# Altium schematic symbol library SCT8-Board.SCHLIB: 149 symbols (part 1 of 4)
Pins are listed as number, name and electrical type; pins without a type are passive.

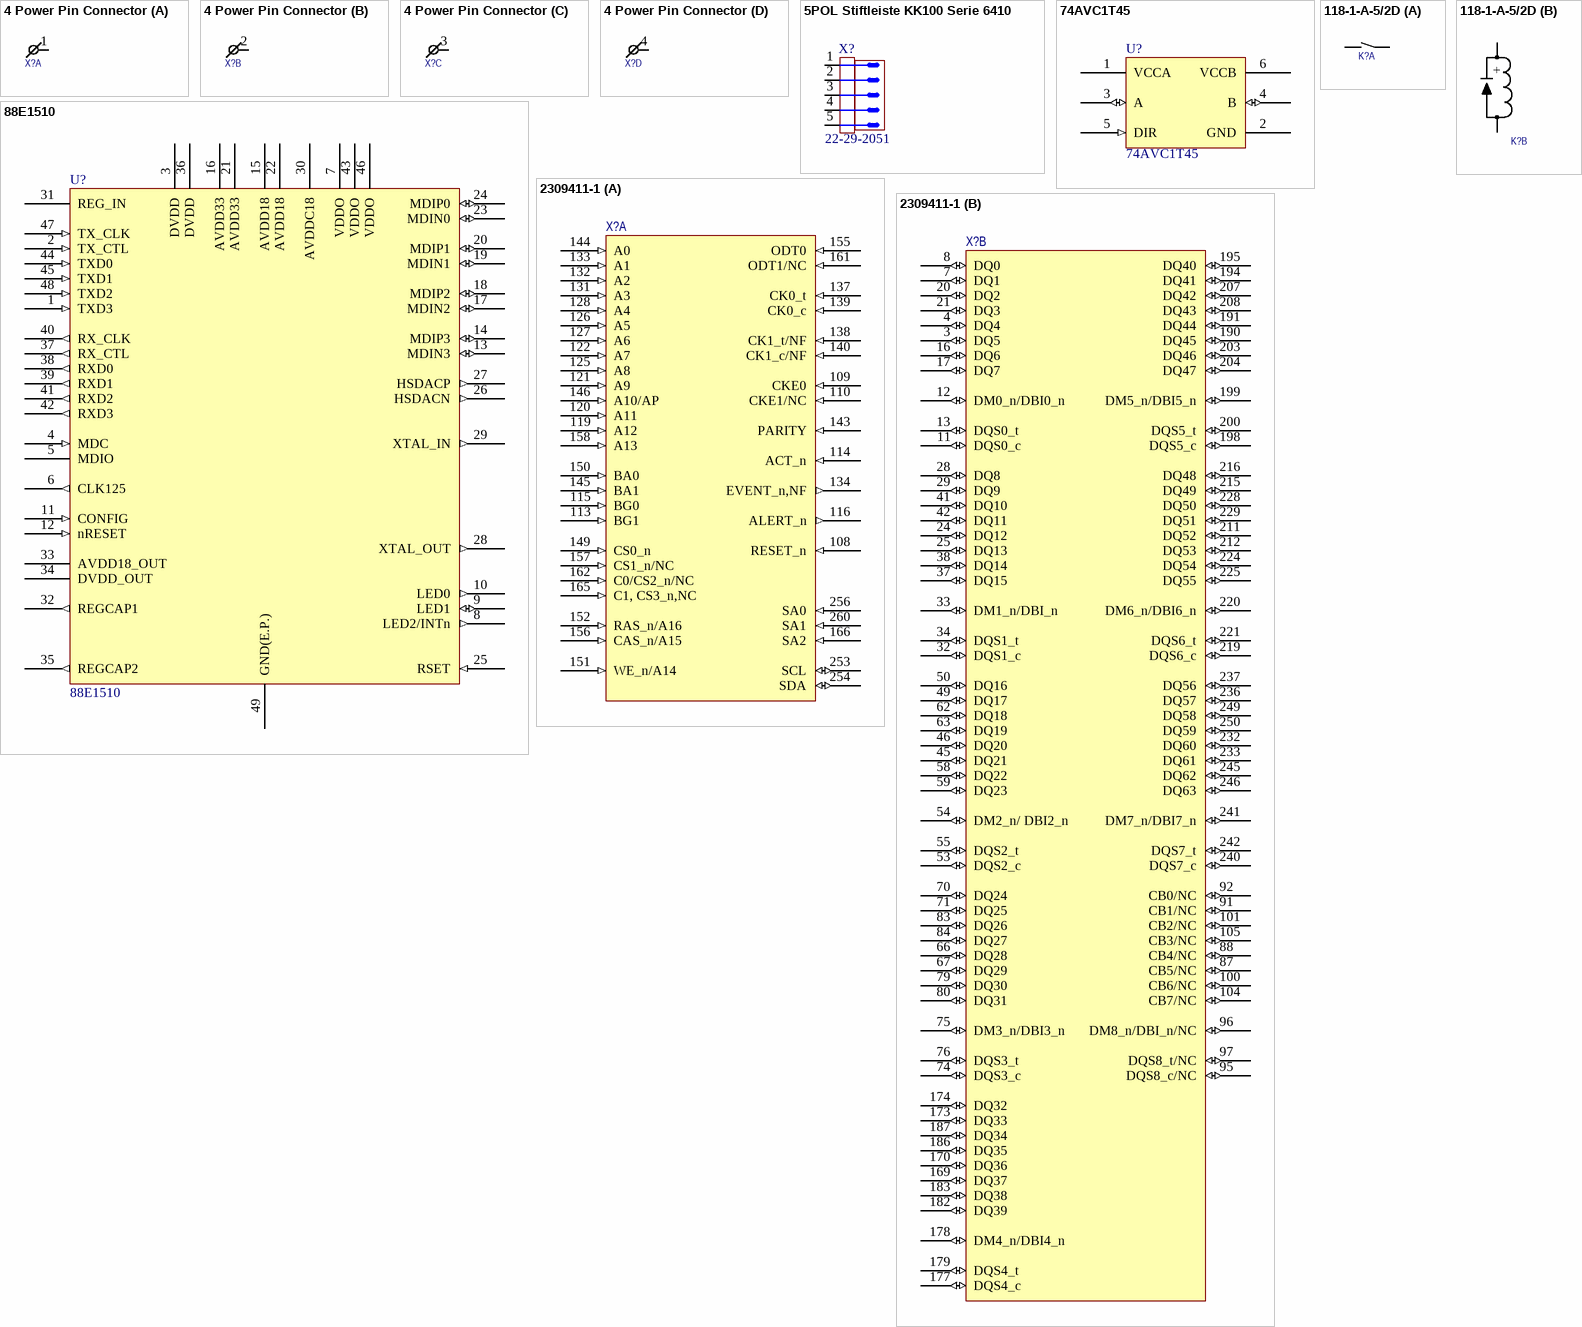
[diagram p0: symbols 4 Power Pin Connector to 2309411-1]

## 4 Power Pin Connector
designator X?, comment X  (value not drawn)
RA TERMINAL 4PM; 04. Manufacturer: Samtec Inc.; 07. Manufacturer  Part Number: EPTT-2-P-11.5-D-RA; 03. Unit Price: 5.0; 13. Created Date/Name: ??? / Hören; System: Connector; 3D-Export: Yes; 01. Distributor: Samtec Inc.; 02. Distributor Part Number: EPTT-2-P-11.5-D-RA; 11. RoHS: YES; ComponentLink1Description: Info; ComponentLink1URL: https://www.samtec.com/products/eptt-2-p-11.5-d-ra; ComponentLink2Description: DataSheet; ComponentLink2URL: http://suddendocs.samtec.com/catalog_english/eptt.pdf
footprint EPTS-2-P-D-VT-1 (Power MaxiSCT (Backplane Side))
footprint EPTT-2-P-11.5-D-RA (Power MaxiSCT (Card Side))
part A pins: 1
part B pins: 2
part C pins: 3
part D pins: 4

## 5POL Stiftleiste KK100 Serie 6410
designator X?, comment 07. Manufacturer  Part Number: 22-29-2051  (hidden comment: X)
CONN HEADER VERT 5POS 2.54MM; 04. Manufacturer: Molex; 03. Unit Price: 1.00; EN Voltage Proof: 2200kV; 3D-Export: No; 01. Distributor: Digi-Key; 02. Distributor Part Number: WM2747-ND; 11. RoHS: YES; ComponentLink1Description: Info; ComponentLink1URL: https://www.digikey.de/products/en?keywords=WM2747-ND; ComponentLink2Description: DataSheet; ComponentLink2URL: https://www.molex.com/pdm_docs/sd/022292051_sd.pdf
footprint MKS??????
footprint KK-6410-5 (Stiftleiste KK100 Serie 6410-5)
pins: 1, 2, 3, 4, 5

## 74AVC1T45
designator U?
MFR-PN: 74AVC1T45GM; MFR: NEXPERIA; POPULATED: yes; 04. Manufacturer: NEXPERIA; 07. Manufacturer  Part Number: 74AVC1T45GM
footprint NXP-SOT886 (SON, 6-Leads, Body 1.45x1.00mm, Pitch 0.50mm, IPC High Density)
pins: 1 VCCA (power), 2 GND (power), 3 A (io), 4 B (io), 5 DIR (in), 6 VCCB (power)

## 88E1510
designator U?, comment NicName: 88E1510  (hidden comment: U)
IC TXRX ETHERNET 10/100/1000 48QFN; MFR-PN: 88E1510-XX-NNB2I000; MFR: MARVEL; 04. Manufacturer: Marvell; 07. Manufacturer  Part Number: 88E1510-A0-NNB2C000; POPULATED: yes; 03. Unit Price: 11.26; 3D-Export: No; 01. Distributor: Mouser; 02. Distributor Part Number: 348-88E1510A0NNB2C00; 09. Operating Temperature: 0~70*C; 11. RoHS: YES; ComponentLink4Description: Info; ComponentLink4URL: https://www.mouser.de/ProductDetail/Marvell/88E1510-A0-NNB2C000?qs=%2Fha2pyFadujPvpXcm4trYvCwXzUYU8oAyO64EW4MIY0M8rmnB%2FMv6Nj0XhjAARXI; ComponentLink5Description: DataSheet; ComponentLink5URL: https://www.mouser.de/datasheet/2/912/arvell-phys-transceivers-alaska-88e151x-datasheet--1360912.pdf
footprint MARVEL-QFN48 (Footprint not found)
pins: 1 TXD3 (in), 2 TX_CTL (in), 3 DVDD (power), 4 MDC (in), 5 MDIO (hiz), 6 CLK125 (out), 7 VDDO (power), 8 LED2/INTn (out), 9 LED1 (io), 10 LED0 (out), 11 CONFIG (in), 12 nRESET (in), 13 MDIN3 (io), 14 MDIP3 (io), 15 AVDD18 (power), 16 AVDD33 (power), 17 MDIN2 (io), 18 MDIP2 (io), 19 MDIN1 (io), 20 MDIP1 (io), 21 AVDD33 (power), 22 AVDD18 (power), 23 MDIN0 (io), 24 MDIP0 (io), 25 RSET (in), 26 HSDACN (out), 27 HSDACP (out), 28 XTAL_OUT (out), 29 XTAL_IN (out), 30 AVDDC18 (power), 31 REG_IN (power), 32 REGCAP1 (out), 33 AVDD18_OUT (hiz), 34 DVDD_OUT (hiz), 35 REGCAP2 (out), 36 DVDD (power), 37 RX_CTL (out), 38 RXD0 (out), 39 RXD1 (out), 40 RX_CLK (out), 41 RXD2 (out), 42 RXD3 (out), 43 VDDO (power), 44 TXD0 (in), 45 TXD1 (in), 46 VDDO (power), 47 TX_CLK (in), 48 TXD2 (in), 49 GND(E.P.) (power)

## 118-1-A-5/2D
designator K?, comment K  (value not drawn)
5V Relais 1*Schließer 200V/500mA/1,2A Spule=2,2k ON=0,6ms/OFF=0,35ms Mech Life=10^9; 04. Manufacturer: Pickering; 07. Manufacturer  Part Number: 118-1-A-5/2D; 03. Unit Price: 2.60; 05. Quantity: 1000; 06. Data Sheet: Pickering_series_118.pdf; 13. Created Date/Name: 20.12.17 S. Kaiser; Coil Resistance: 1500 Ohm; Max Carry Current: 1.2 A; Max Switch Current: 1A; Max Switch Voltage: 200V; Power Rating: 15W; 3D-Export: Yes; 01. Distributor: Pickering; 02. Distributor Part Number: 118-1-A-5/2D; 09. Operating Temperature: -20°C ~ +85°C; 11. RoHS: 2011/65/EU; ComponentLink1Description: Info; ComponentLink1URL: http://www.pickeringrelay.com/; ComponentLink2Description: DataSheet; ComponentLink2URL: https://www.pickeringrelay.com/products/single-line-sil-series-111-119/single-line-sil-series-118/; Coil Voltage: 5V
footprint 118-1A (ATE Relay (NO))
part A pins: 3 CA, 4 CB
part B pins: 1 +, 2 -
1 alternate drawing of the same symbol

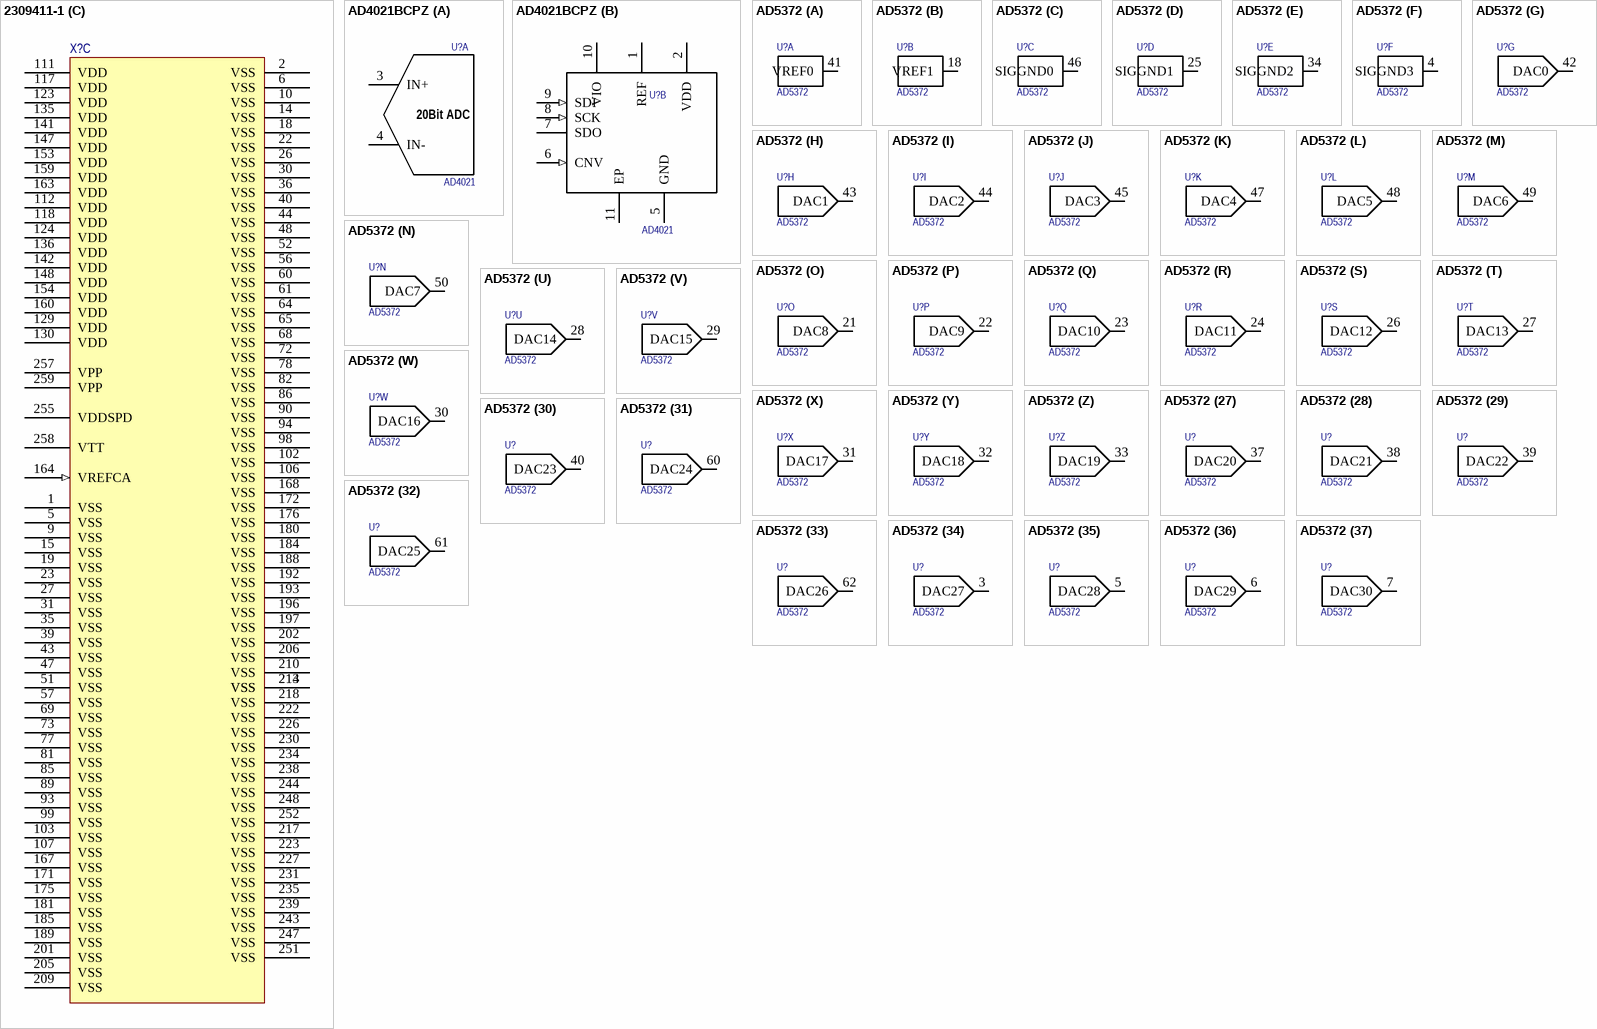
[diagram p1: symbols 2309411-1 to AD5372]

## 2309411-1
designator X?, comment X  (value not drawn)
DDR4 SODIMM 260P 8.0H STD; 04. Manufacturer: TE Connectivity AMP Connectors; 07. Manufacturer  Part Number: 2309411-1; 03. Unit Price: 1.7; 13. Created Date/Name: April 2019 / Hören; System: Connector; 3D-Export: Yes; 01. Distributor: DigiKey; 02. Distributor Part Number: A126762CT-ND; 11. RoHS: YES; ComponentLink1Description: Info; ComponentLink1URL: https://www.digikey.de/product-detail/en/te-connectivity-amp-connectors/2309411-1/A126762CT-ND/7793546; ComponentLink2Description: DataSheet; ComponentLink2URL: https://www.te.com/commerce/DocumentDelivery/DDEController?Action=srchrtrv&DocNm=2309411&DocType=Customer+Drawing&DocLang=English
footprint 2309411-1 (DDR4 SODIMM 260P 8.0H STD)
part A pins: 108 RESET_n (in), 109 CKE0 (in), 110 CKE1/NC (in), 113 BG1 (in), 114 ACT_n (in), 115 BG0 (in), 116 ALERT_n (out), 119 A12 (in), 120 A11 (in), 121 A9 (in), 122 A7 (in), 125 A8 (in), 126 A5 (in), 127 A6 (in), 128 A4 (in), 131 A3 (in), 132 A2 (in), 133 A1 (in), 134 EVENT_n,NF (out), 137 CK0_t (in), 138 CK1_t/NF (in), 139 CK0_c (in), 140 CK1_c/NF (in), 143 PARITY (in), 144 A0 (in), 145 BA1 (in), 146 A10/AP (in), 149 CS0_n (in), 150 BA0 (in), 151 WE_n/A14 (in), 152 RAS_n/A16 (in), 155 ODT0 (in), 156 CAS_n/A15 (in), 157 CS1_n/NC (in), 158 A13 (in), 161 ODT1/NC (in), 162 C0/CS2_n/NC (in), 165 C1, CS3_n,NC (in), 166 SA2 (in), 253 SCL (io), 254 SDA (io), 256 SA0 (in), 260 SA1 (in)
part B pins: 3 DQ5 (io), 4 DQ4 (io), 7 DQ1 (io), 8 DQ0 (io), 11 DQS0_c (io), 12 DM0_n/DBI0_n (io), 13 DQS0_t (io), 16 DQ6 (io), 17 DQ7 (io), 20 DQ2 (io), 21 DQ3 (io), 24 DQ12 (io), 25 DQ13 (io), 28 DQ8 (io), 29 DQ9 (io), 32 DQS1_c (io), 33 DM1_n/DBI_n (io), 34 DQS1_t (io), 37 DQ15 (io), 38 DQ14 (io), 41 DQ10 (io), 42 DQ11 (io), 45 DQ21 (io), 46 DQ20 (io), 49 DQ17 (io), 50 DQ16 (io), 53 DQS2_c (io), 54 DM2_n/ DBI2_n (io), 55 DQS2_t (io), 58 DQ22 (io), 59 DQ23 (io), 62 DQ18 (io), 63 DQ19 (io), 66 DQ28 (io), 67 DQ29 (io), 70 DQ24 (io), 71 DQ25 (io), 74 DQS3_c (io), 75 DM3_n/DBI3_n (io), 76 DQS3_t (io), 79 DQ30 (io), 80 DQ31 (io), 83 DQ26 (io), 84 DQ27 (io), 87 CB5/NC (io), 88 CB4/NC (io), 91 CB1/NC (io), 92 CB0/NC (io), 95 DQS8_c/NC (io), 96 DM8_n/DBI_n/NC (io), 97 DQS8_t/NC (io), 100 CB6/NC (io), 101 CB2/NC (io), 104 CB7/NC (io), 105 CB3/NC (io), 169 DQ37 (io), 170 DQ36 (io), 173 DQ33 (io), 174 DQ32 (io), 177 DQS4_c (io), 178 DM4_n/DBI4_n (io), 179 DQS4_t (io), 182 DQ39 (io), 183 DQ38 (io), 186 DQ35 (io), 187 DQ34 (io), 190 DQ45 (io), 191 DQ44 (io), 194 DQ41 (io), 195 DQ40 (io), 198 DQS5_c (io), 199 DM5_n/DBI5_n (io), 200 DQS5_t (io), 203 DQ46 (io), 204 DQ47 (io), 207 DQ42 (io), 208 DQ43 (io), 211 DQ52 (io), 212 DQ53 (io), 215 DQ49 (io), 216 DQ48 (io), 219 DQS6_c (io), 220 DM6_n/DBI6_n (io), 221 DQS6_t (io), 224 DQ54 (io), 225 DQ55 (io), 228 DQ50 (io), 229 DQ51 (io), 232 DQ60 (io), 233 DQ61 (io), 236 DQ57 (io), 237 DQ56 (io), 240 DQS7_c (io), 241 DM7_n/DBI7_n (io), 242 DQS7_t (io), 245 DQ62 (io), 246 DQ63 (io), 249 DQ58 (io), 250 DQ59 (io)
part C pins: 1 VSS (power), 2 VSS (power), 5 VSS (power), 6 VSS (power), 9 VSS (power), 10 VSS (power), 14 VSS (power), 15 VSS (power), 18 VSS (power), 19 VSS (power), 22 VSS (power), 23 VSS (power), 26 VSS (power), 27 VSS (power), 30 VSS (power), 31 VSS (power), 35 VSS (power), 36 VSS (power), 39 VSS (power), 40 VSS (power), 43 VSS (power), 44 VSS (power), 47 VSS (power), 48 VSS (power), 51 VSS (power), 52 VSS (power), 56 VSS (power), 57 VSS (power), 60 VSS (power), 61 VSS (power), 64 VSS (power), 65 VSS (power), 68 VSS (power), 69 VSS (power), 72 VSS (power), 73 VSS (power), 77 VSS (power), 78 VSS (power), 81 VSS (power), 82 VSS (power), 85 VSS (power), 86 VSS (power), 89 VSS (power), 90 VSS (power), 93 VSS (power), 94 VSS (power), 98 VSS (power), 99 VSS (power), 102 VSS (power), 103 VSS (power), 106 VSS (power), 107 VSS (power), 111 VDD (power), 112 VDD (power), 117 VDD (power), 118 VDD (power), 123 VDD (power), 124 VDD (power), 129 VDD (power), 130 VDD (power), 135 VDD (power), 136 VDD (power), 141 VDD (power), 142 VDD (power), 147 VDD (power), 148 VDD (power), 153 VDD (power), 154 VDD (power), 159 VDD (power), 160 VDD (power), 163 VDD (power), 164 VREFCA (in), 167 VSS (power), 168 VSS (power), 171 VSS (power), 172 VSS (power), 175 VSS (power), 176 VSS (power), 180 VSS (power), 181 VSS (power), 184 VSS (power), 185 VSS (power), 188 VSS (power), 189 VSS (power), 192 VSS (power), 193 VSS (power), 196 VSS (power), 197 VSS (power), 201 VSS (power), 202 VSS (power), 205 VSS (power), 206 VSS (power), 209 VSS (power), 210 VSS (power), 213 VSS (power), 214 VSS (power), 217 VSS (power), 218 VSS (power), 222 VSS (power), 223 VSS (power), 226 VSS (power), 227 VSS (power), 230 VSS (power), 231 VSS (power), 234 VSS (power), 235 VSS (power), 238 VSS (power), 239 VSS (power), 243 VSS (power), 244 VSS (power), 247 VSS (power), 248 VSS (power), 251 VSS (power), 252 VSS (power), 255 VDDSPD (power), 257 VPP (power), 258 VTT (power), 259 VPP (power)

## AD4021BCPZ
designator U?, comment NicName: AD4021  (hidden comment: U)
IC ADC 20BIT SAR 10LFCSP 1 MSPS; 04. Manufacturer: Analog Devices Inc.; 07. Manufacturer  Part Number: AD4021BCPZ-R2; 03. Unit Price: 31.81; 13. Created Date/Name: AUG 2018 / Hören; ComponentLink1Description: Info; ComponentLink1URL: https://www.digikey.de/products/en/integrated-circuits-ics/data-acquisition-analog-to-digital-converters-adc/700?k=AD4020BCPZ&k=&pkeyword=AD4020BCPZ&sv=0&pv7=243&sf=0&quantity=&ColumnSort=0&page=1&pageSize=25; ComponentLink2Description: DataSheet; ComponentLink2URL: https://www.analog.com/media/en/technical-documentation/data-sheets/AD4020-4021-4022.pdf; 01. Distributor: Digi-Key; 02. Distributor Part Number: https://www.digikey.de/products/en?keywords=505-AD4021BCPZ-R2DKR-ND; 09. Operating Temperature: -40°C ~ 125°C
footprint CP-10-9 (10-LFCSP (3x3))
part A pins: 3 IN+, 4 IN-
part B pins: 1 REF, 2 VDD, 5 GND, 6 CNV (in), 7 SDO, 8 SCK (in), 9 SDI (in), 10 VIO, 11 EP
part A text: 20Bit ADC

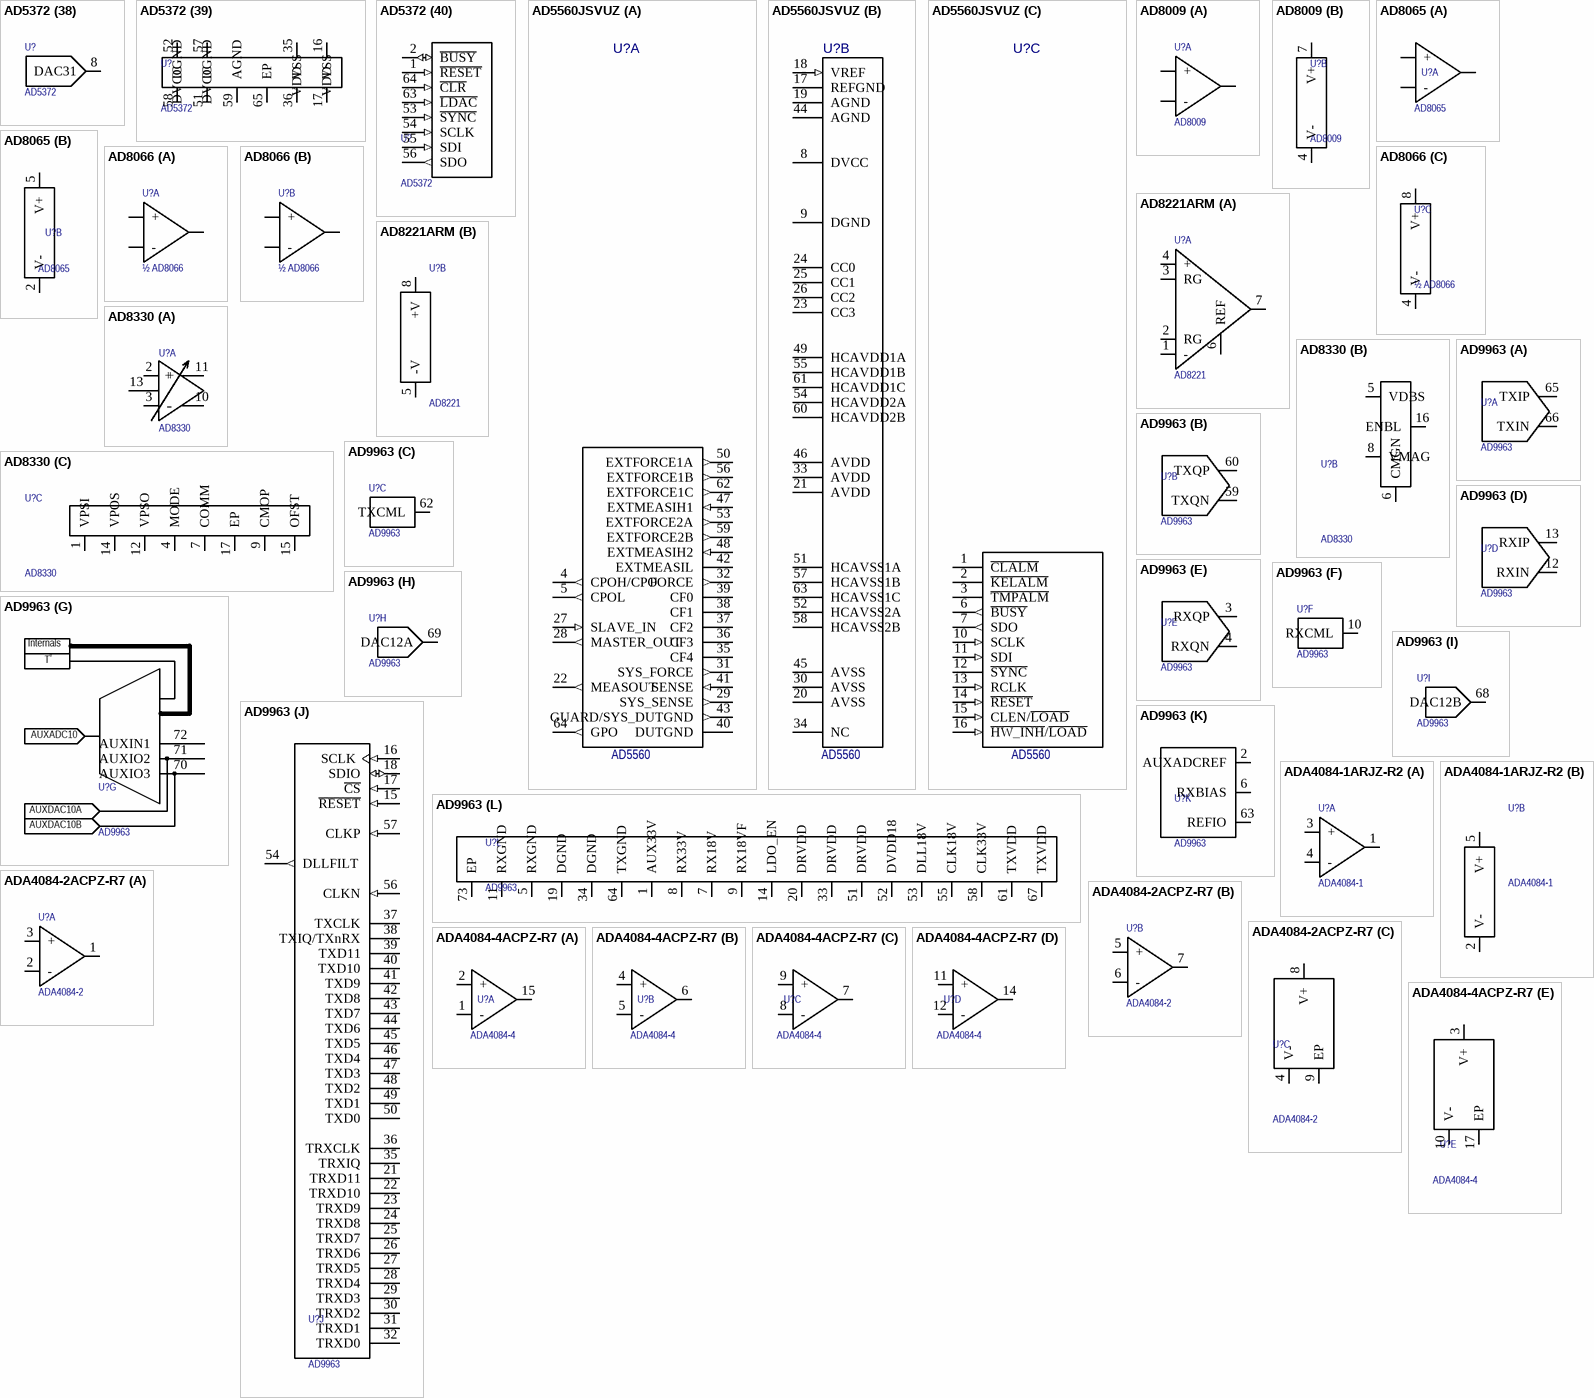
[diagram p2: symbols AD5372 to ADA4084-4ACPZ-R7]

## AD5372
designator U?, comment NicName: AD5372  (hidden comment: U)
IC DAC 16BIT 32CH SER 56-LFCSP; 04. Manufacturer: Analog Devices Inc.; 07. Manufacturer  Part Number: AD5372BCPZ; 03. Unit Price: 76.51; 13. Created Date/Name: AUG 2018 / Hören; Design: AWGDIG; 3D-Export: No; ComponentLink1Description: Info; ComponentLink1URL: http://be.farnell.com/analog-devices/ad5373bcpz/dac-32-ch-14bit-540ksps-lfcsp/dp/2461392?ost=AD5373BCPZ&selectedCategoryId=&categoryNameResp=Alles&searchView=table&iscrfnonsku=false; ComponentLink2Description: DataSheet; ComponentLink2URL: http://www.analog.com/media/en/technical-documentation/data-sheets/AD5372_5373.pdf; 01. Distributor: DigiKey; 02. Distributor Part Number: AD5372BCPZ-ND; 09. Operating Temperature: -40°C ~ 85°C; 11. RoHS: YES; Package: 56-LFCSP-VQ
footprint CP-64-3 (64-Lead Lead Frame Chip Scale Package [LFCSP_VQ])
part A pins: 41 VREF0
part B pins: 18 VREF1
part C pins: 46 SIGGND0
part D pins: 25 SIGGND1
part E pins: 34 SIGGND2
part F pins: 4 SIGGND3
part G pins: 42 DAC0
part H pins: 43 DAC1
part I pins: 44 DAC2
part J pins: 45 DAC3
part K pins: 47 DAC4
part L pins: 48 DAC5
part M pins: 49 DAC6
part N pins: 50 DAC7
part O pins: 21 DAC8
part P pins: 22 DAC9
part Q pins: 23 DAC10
part R pins: 24 DAC11
part S pins: 26 DAC12
part T pins: 27 DAC13
part U pins: 28 DAC14
part V pins: 29 DAC15
part W pins: 30 DAC16
part X pins: 31 DAC17
part Y pins: 32 DAC18
part Z pins: 33 DAC19
part 27 pins: 37 DAC20
part 28 pins: 38 DAC21
part 29 pins: 39 DAC22
part 30 pins: 40 DAC23
part 31 pins: 60 DAC24
part 32 pins: 61 DAC25
part 33 pins: 62 DAC26
part 34 pins: 3 DAC27
part 35 pins: 5 DAC28
part 36 pins: 6 DAC29
part 37 pins: 7 DAC30
part 38 pins: 8 DAC31
part 39 pins: 16 VDD, 17 VSS, 35 VDD, 36 VSS, 51 DGND, 52 DVCC, 57 DVCC, 58 DGND, 59 AGND, 65 EP
part 40 pins: 1 ~{RESET} (in), 2 ~{BUSY} (io), 53 ~{SYNC} (in), 54 SCLK (in), 55 SDI (in), 56 SDO (out), 63 ~{LDAC} (in), 64 ~{CLR} (in)
part 41 pins: 9 NC, 10 NC, 11 NC, 12 NC, 13 NC, 14 NC, 15 NC, 19 NC, 20 NC

## AD5560JSVUZ
designator U?, comment Nickname: AD5560  (hidden comment: U)
IC POWER SUPPLY 64TQFP; 04. Manufacturer: Analog Devices Inc.; 07. Manufacturer  Part Number: AD5560JSVUZ-REEL; 03. Unit Price: 32.56; 13. Created Date/Name: AUG 2018 / Hören; ComponentLink1Description: Info; ComponentLink1URL: https://www.digikey.de/products/en?keywords=%20%09AD5560JSVUZ-REELDKR-ND; 01. Distributor: DigiKey; 02. Distributor Part Number: AD5560JSVUZ-REELDKR-ND; 09. Operating Temperature: -25°C ~ 150°C; ComponentLink2Description: DataSheet; ComponentLink2URL: https://www.analog.com/media/en/technical-documentation/data-sheets/AD5560.pdf
footprint SV-64-3 (64-Lead Thin Quad Flat Package, TQFP with EP on top of the IC)
part A pins: 4 CPOH/CPO (out), 5 CPOL (out), 22 MEASOUT (out), 27 SLAVE_IN (in), 28 MASTER_OUT (out), 29 SYS_SENSE (out), 31 SYS_FORCE (out), 32 FORCE (out), 35 CF4, 36 CF3, 37 CF2, 38 CF1, 39 CF0, 40 DUTGND (power), 41 SENSE (in), 42 EXTMEASIL, 43 GUARD/SYS_DUTGND (out), 47 EXTMEASIH1 (in), 48 EXTMEASIH2 (in), 50 EXTFORCE1A (out), 53 EXTFORCE2A (out), 56 EXTFORCE1B (out), 59 EXTFORCE2B (out), 62 EXTFORCE1C (out), 64 GPO (out)
part B pins: 8 DVCC (power), 9 DGND (power), 17 REFGND (power), 18 VREF (in), 19 AGND (power), 20 AVSS (power), 21 AVDD (power), 23 CC3, 24 CC0, 25 CC1, 26 CC2, 30 AVSS (power), 33 AVDD (power), 34 NC, 44 AGND (power), 45 AVSS (power), 46 AVDD (power), 49 HCAVDD1A (power), 51 HCAVSS1A (power), 52 HCAVSS2A (power), 54 HCAVDD2A (power), 55 HCAVDD1B (power), 57 HCAVSS1B (power), 58 HCAVSS2B (power), 60 HCAVDD2B (power), 61 HCAVDD1C (power), 63 HCAVSS1C (power)
part C pins: 1 ~{CLALM}, 2 ~{KELALM}, 3 ~{TMPALM}, 6 ~{BUSY} (out), 7 SDO (out), 10 SCLK (in), 11 SDI (in), 12 ~{SYNC}, 13 RCLK (in), 14 ~{RESET} (in), 15 CLEN/~{LOAD} (in), 16 ~{HW_INH}/~{LOAD} (in)

## AD8009
designator U?, comment NicName: AD8009  (hidden comment: U)
IC OPAMP CFA 845MHZ SOT23-5; 04. Manufacturer: Analog Devices Inc.; 07. Manufacturer  Part Number: AD8009JRTZ-REEL7; 03. Unit Price: 3.67; 13. Created Date/Name: AUG 2018 / Hören; Design: AWGDIG; 3D-Export: No; ComponentLink1URL: https://www.digikey.de/products/en/integrated-circuits-ics/linear-amplifiers-instrumentation-op-amps-buffer-amps/687?k=AD8009&k=&pkeyword=AD8009&pv7=243&sf=0&FV=142c000b%2Cffe002af%2C1f140000&quantity=&ColumnSort=0&page=1&pageSize=25; ComponentLink1Description: Info; ComponentLink2Description: DataSheet; ComponentLink2URL: https://www.analog.com/media/en/technical-documentation/data-sheets/AD8009.pdf; 01. Distributor: DigiKey; 02. Distributor Part Number: AD8009JRTZ-REEL7DKR-ND; 09. Operating Temperature: 0°C ~ 70°C; 11. RoHS: YES; Package: SOT23-5
simulation model AD8009AN (Model Description)
footprint SOIC8 (R-8) (Generic 8 lead SOIC Narrow Body)
footprint SOT23-5 (SOT 23 5 lead); pin to pad 2>4 4>2 6>1 7>5
part A pins: 2 -, 3 +, 6 Out
part B pins: 4 V-, 7 V+

## AD8065
designator U?, comment NicName: AD8065  (hidden comment: U)
IC OPAMP VFB 145MHZ RRO SOT23-5; 04. Manufacturer: Analog Devices Inc.; 07. Manufacturer  Part Number: AD8065ARTZ-REEL7; 03. Unit Price: 3.34; 13. Created Date/Name: AUG 2018 / Hören; 3D-Export: No; ComponentLink1Description: Info; ComponentLink1URL: https://www.digikey.de/product-detail/en/analog-devices-inc/AD8065ARTZ-REEL7/AD8065ARTZ-REEL7DKR-ND/1765607; ComponentLink2Description: DataSheet; ComponentLink2URL: http://www.analog.com/media/en/technical-documentation/data-sheets/AD8065_8066.pdf; 01. Distributor: DigiKey; 02. Distributor Part Number: AD8065ARTZ-REEL7DKR-ND; Package: SOT23-5
simulation model AD8065 (Model Description)
footprint SOT23-5 (SOT 23 5 lead)
part A pins: 1 Out, 3 +, 4 -
part B pins: 2 V-, 5 V+

## AD8066
designator U?, comment NicName: ½ AD8066  (hidden comment: U)
IC OPAMP VFB 145MHZ RRO 8MSOP; 04. Manufacturer: Analog Devices Inc.; 07. Manufacturer  Part Number: AD8066ARMZ-REEL7; 03. Unit Price: 5.66; 13. Created Date/Name: AUG 2018 / Hören; Design: AWGDIG; 3D-Export: No; 01. Distributor: DigiKey; 02. Distributor Part Number: AD8066ARMZ-REEL7DKR-ND; 11. RoHS: YES; ComponentLink1Description: Info; ComponentLink1URL: https://www.digikey.de/products/en/integrated-circuits-ics/linear-amplifiers-instrumentation-op-amps-buffer-amps/687?k=AD8066&k=&pkeyword=AD8066&pv16=12682&sf=0&FV=1f140000%2Cffe002af%2C1c00f3&quantity=&ColumnSort=0&page=1&pageSize=25; ComponentLink2Description: DataSheet; ComponentLink2URL: https://www.analog.com/media/en/technical-documentation/data-sheets/AD8065_8066.pdf; Package: MSOP8 (RM8)
footprint MSOP8(RM-8) (8-Lead MSOP)
part A pins: 1 Out, 2 -, 3 +
part B pins: 5 +, 6 -, 7 Out
part C pins: 4 V-, 8 V+

## AD8221ARM
designator U?, comment NicName: AD8221  (hidden comment: U)
IC INST AMP 1 CIRCUIT 8MSOP; 04. Manufacturer: Analog Devices Inc.; 07. Manufacturer  Part Number: AD8221ARMZ-R7; 03. Unit Price: 5.10; 13. Created Date/Name: AUG 2018 / Hören; Design: AWGDIG; 3D-Export: No; ComponentLink1URL: https://www.digikey.de/products/en?keywords=AD8221ARMZ-R7DKR-ND; ComponentLink1Description: Info; ComponentLink2Description: DataSheet; ComponentLink2URL: https://www.analog.com/media/en/technical-documentation/data-sheets/AD8221.pdf; 01. Distributor: DigiKey; 02. Distributor Part Number: AD8221ARMZ-R7DKR-ND; 09. Operating Temperature: 0°C ~ 85°C; 11. RoHS: YES; Package: MSOP8
footprint MSOP8(RM-8) (8-Lead MSOP)
part A pins: 1 -, 2 RG, 3 RG, 4 +, 6 REF, 7 VOUT
part B pins: 5 -V (power), 8 +V (power)

## AD8330
designator U?, comment NicName: AD8330  (hidden comment: U)
IC OPAMP VGA 150MHZ RRO 16LFCSP; 04. Manufacturer: Analog Devices Inc.; 07. Manufacturer  Part Number: AD8330ACPZ-R7; 03. Unit Price: 9.88; 13. Created Date/Name: AUG 2018 / Hören; Design: AWGDIG; 3D-Export: No; 01. Distributor: DigiKey; 02. Distributor Part Number: AD8330ACPZ-R7DKR-ND; 09. Operating Temperature: -40°C ~ 85°C; 11. RoHS: YES; ComponentLink1Description: Info; ComponentLink1URL: https://www.digikey.de/products/en/integrated-circuits-ics/linear-amplifiers-instrumentation-op-amps-buffer-amps/687?k=AD8330ACPZ&k=&pkeyword=AD8330ACPZ&pv7=243&sf=0&FV=ffe002af%2C1f140000&quantity=&ColumnSort=0&page=1&pageSize=25; ComponentLink2Description: DataSheet; ComponentLink2URL: https://www.analog.com/media/en/technical-documentation/data-sheets/AD8330.pdf; Package: 16LFCSP (CP-16-27)
footprint CP-16-27 (16 lead LFCSP)
part A pins: 2 + "INHI", 3 - "INLO", 10 - "OPLO", 11 + "OPHI", 13 CNTR
part B pins: 5 VDBS, 6 CMGN "VDBS", 8 VMAG, 16 ENBL
part C pins: 1 VPSI, 4 MODE, 7 COMM, 9 CMOP, 12 VPSO, 14 VPOS, 15 OFST, 17 EP
1 alternate drawing of the same symbol

## AD9963
designator U?, comment NicName: AD9963  (hidden comment: U)
IC BROADBAND FRONT-END 72LFCSP; 04. Manufacturer: Analog Devices Inc.; 07. Manufacturer  Part Number: AD9963BCPZ; 03. Unit Price: 43.55; 13. Created Date/Name: AUG 2018 / Hören; 3D-Export: No; ComponentLink1Description: Info; ComponentLink1URL: https://www.digikey.de/product-detail/en/analog-devices-inc/AD9963BCPZ/AD9963BCPZ-ND/2606835; ComponentLink2Description: DataSheet; ComponentLink2URL: https://www.analog.com/media/en/technical-documentation/data-sheets/AD9961_9963.pdf; 01. Distributor: DigiKey; 02. Distributor Part Number: AD9963BCPZ-ND; 11. RoHS: YES
ibis AD9963 (Model Description)
footprint CP-72-4 (72 Lead LFCSP_VQ (10x10mm))
part A pins: 65 TXIP, 66 TXIN
part B pins: 59 TXQN, 60 TXQP
part C pins: 62 TXCML
part D pins: 12 RXIN, 13 RXIP
part E pins: 3 RXQP, 4 RXQN
part F pins: 10 RXCML
part G pins: 70 AUXIO3, 71 AUXIO2, 72 AUXIN1
part H pins: 69 DAC12A
part I pins: 68 DAC12B
part J pins: 15 ~{RESET} (in) "RESET", 16 SCLK (in) "CK", 17 ~{CS} (in) "STB", 18 SDIO (io), 21 TRXD11, 22 TRXD10, 23 TRXD9, 24 TRXD8, 25 TRXD7, 26 TRXD6, 27 TRXD5, 28 TRXD4, 29 TRXD3, 30 TRXD2, 31 TRXD1, 32 TRXD0, 35 TRXIQ, 36 TRXCLK, 37 TXCLK, 38 TXIQ/TXnRX, 39 TXD11, 40 TXD10, 41 TXD9, 42 TXD8, 43 TXD7, 44 TXD6, 45 TXD5, 46 TXD4, 47 TXD3, 48 TXD2, 49 TXD1, 50 TXD0, 54 DLLFILT (out), 56 CLKN (in), 57 CLKP (in)
part K pins: 2 AUXADCREF, 6 RXBIAS, 63 REFIO
part L pins: 1 AUX33V, 5 RXGND, 7 RX18V, 8 RX33V, 9 RX18VF, 11 RXGND, 14 LDO_EN, 19 DGND, 20 DRVDD, 33 DRVDD, 34 DGND, 51 DRVDD, 52 DVDD18, 53 DLL18V, 55 CLK18V, 58 CLK33V, 61 TXVDD, 64 TXGND, 67 TXVDD, 73 EP
part G text: Internals; T˚; AUXADC10; AUXDAC10A; AUXDAC10B

## ADA4084-1ARJZ-R2
designator U?, comment NicName: ADA4084-1  (hidden comment: U)
IC OPAMP GP 1 CIRCUIT SOT23-5; 04. Manufacturer: Analog Devices Inc.; 07. Manufacturer  Part Number: ADA4084-1ARJZ-R2; 03. Unit Price: 5.42; 13. Created Date/Name: AUG 2018 / Hören; ComponentLink1Description: Info; ComponentLink1URL: https://www.digikey.de/products/en?keywords=ADA4084-1ARJZ-R2DKR-ND; ComponentLink2Description: DataSheet; ComponentLink2URL: https://www.analog.com/media/en/technical-documentation/data-sheets/ADA4084-1_4084-2_4084-4.pdf; 01. Distributor: DigiKey; 02. Distributor Part Number: ADA4084-1ARJZ-R2DKR-ND; Package: SOT23-5
footprint SOT23-5 (SOT 23 5 lead)
part A pins: 1 VOUT, 3 +, 4 -
part B pins: 2 V-, 5 V+

## ADA4084-2ACPZ-R7
designator U?, comment NicName: ADA4084-2  (hidden comment: U)
IC OPAMP GP 2 CIRCUIT 8LFCSP; 04. Manufacturer: Analog Devices Inc.; 07. Manufacturer  Part Number: ADA4084-2ACPZ-R7; 03. Unit Price: 5.83; 13. Created Date/Name: AUG 2018 / Hören; ComponentLink1Description: Info; ComponentLink1URL: https://www.digikey.de/products/en?keywords=ADA4084-2ACPZ-R7-DKR-ND; ComponentLink2Description: DataSheet; ComponentLink2URL: https://www.analog.com/media/en/technical-documentation/data-sheets/ADA4084-1_4084-2_4084-4.pdf; 01. Distributor: DigiKey; 02. Distributor Part Number: ADA4084-2ACPZ-R7-DKR-ND; Package: 8-LFCSP-WD (3x3)
footprint CP-8-11 (8-Lead LFCSP (3X3))
part A pins: 1 OUTA, 2 -, 3 +
part B pins: 5 +, 6 -, 7 OUTB
part C pins: 4 V-, 8 V+, 9 EP

## ADA4084-4ACPZ-R7
designator U?, comment NicName: ADA4084-4  (hidden comment: U)
IC OPAMP GP 4 CIRCUIT 16LFCSP; 04. Manufacturer: Analog Devices Inc.; 07. Manufacturer  Part Number: ADA4084-4ACPZ-R7; 03. Unit Price: 9.26; 13. Created Date/Name: AUG 2018 / Hören; ComponentLink1Description: Info; ComponentLink1URL: https://www.digikey.de/products/en?keywords=ADA4084-4ACPZ-R7DKR-ND; ComponentLink2Description: DataSheet; ComponentLink2URL: https://www.analog.com/media/en/technical-documentation/data-sheets/ADA4084-1_4084-2_4084-4.pdf; 01. Distributor: DigiKey; 02. Distributor Part Number: ADA4084-4ACPZ-R7DKR-ND; Package: 16-LFCSP-WQ (4x4)
footprint CP-16-17 (Lead Frame Chip Scale Package, 16-Lead, 4x4mm)
part A pins: 1 -, 2 +, 15 OUTA
part B pins: 4 +, 5 -, 6 OUTB
part C pins: 7 OUTC, 8 -, 9 +
part D pins: 11 +, 12 -, 14 OUTD
part E pins: 3 V+, 10 V-, 17 EP

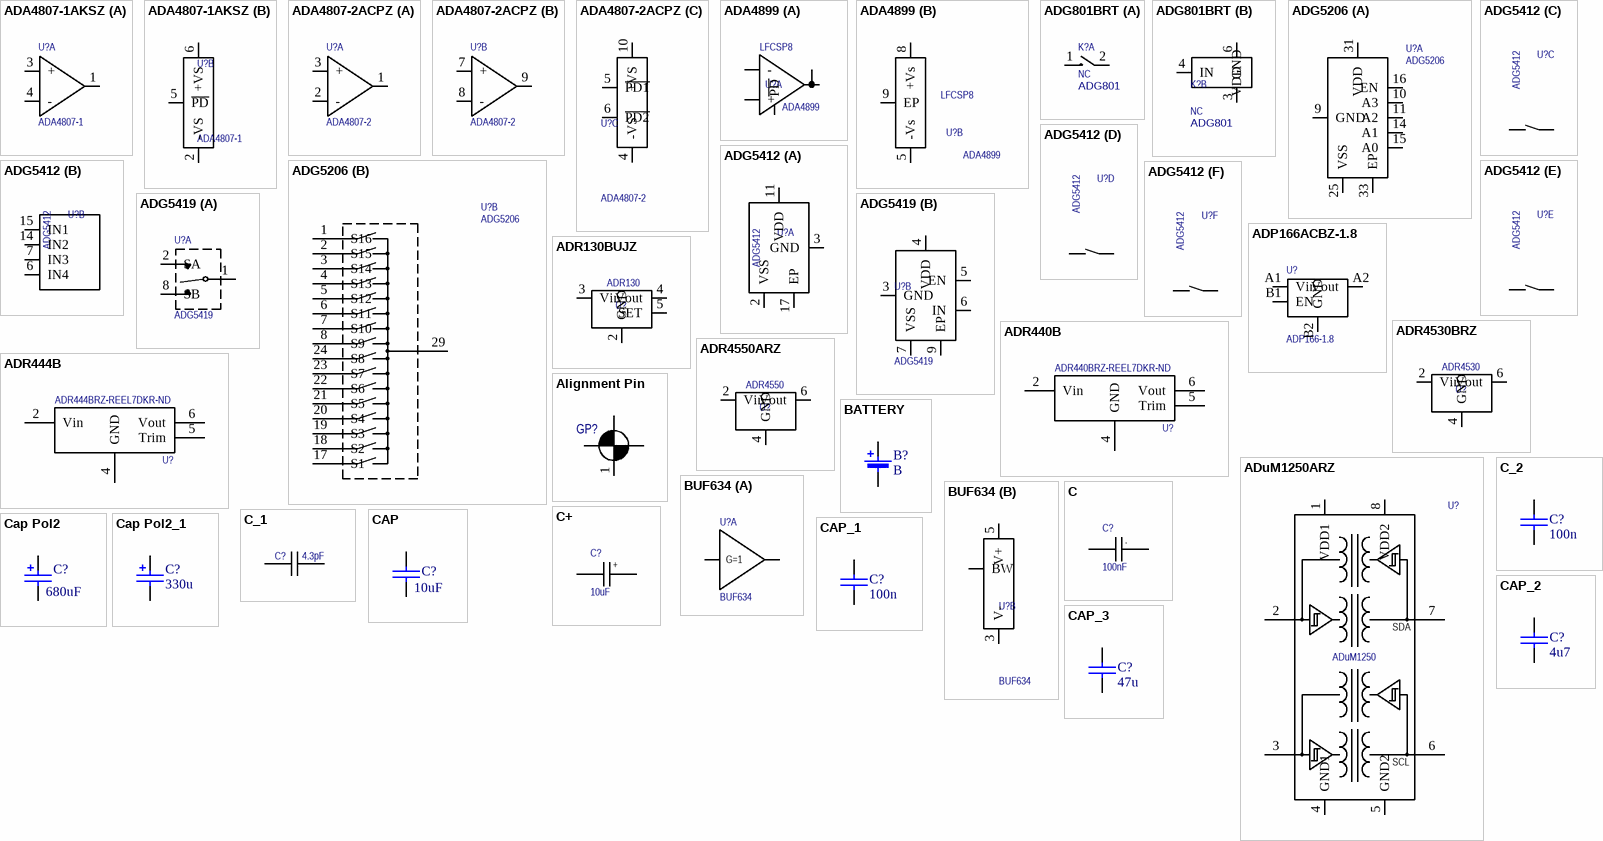
[diagram p3: symbols ADA4807-1AKSZ to CAP_3]

## ADA4807-1AKSZ
designator U?, comment NicName: ADA4807-1  (hidden comment: U)
IC OPAMP VFB 1 CIRCUIT SC70-6; 04. Manufacturer: Analog Devices Inc.; 07. Manufacturer  Part Number: ADA4807-1AKSZ-R7; 03. Unit Price: 2.44; 13. Created Date/Name: AUG 2018 / Hören; ComponentLink1Description: Info; ComponentLink1URL: https://www.digikey.de/product-detail/en/analog-devices-inc/ADA4807-1AKSZ-R7/ADA4807-1AKSZ-R7DKR-ND/8594894; ComponentLink2Description: DataSheet; ComponentLink2URL: https://www.analog.com/media/en/technical-documentation/data-sheets/ADA4807-1_4807-2_4807-4.pdf; 01. Distributor: DigiKey; 02. Distributor Part Number: ADA4807-1AKSZ-R7DKR-ND; Package: SC70-6
footprint SC70-6
part A pins: 1 VOUT, 3 +, 4 -
part B pins: 2 -VS, 5 ~{PD}, 6 +VS

## ADA4807-2ACPZ
designator U?, comment NicName: ADA4807-2  (hidden comment: U)
IC OPAMP VFB 2 CIRCUIT 10LFCSP; 04. Manufacturer: Analog Devices Inc.; 07. Manufacturer  Part Number: ADA4807-2ACPZ-R7; 03. Unit Price: 3.3; 13. Created Date/Name: AUG 2018 / Hören; ComponentLink1Description: Info; ComponentLink1URL: https://www.digikey.de/product-detail/de/analog-devices-inc/ADA4807-2ACPZ-R7/ADA4807-2ACPZ-R7TR-ND/5268025; ComponentLink2Description: DataSheet; ComponentLink2URL: https://www.analog.com/media/en/technical-documentation/data-sheets/ADA4807-1_4807-2_4807-4.pdf; 01. Distributor: DigiKey; 02. Distributor Part Number: ADA4807-2ACPZ-R7TR-ND; Package: SC70-6
footprint SC70-6
footprint CP-10-9 (10-LFCSP (3x3))
part A pins: 1 VOUT, 2 -, 3 +
part B pins: 7 +, 8 -, 9 VOUT2
part C pins: 4 -VS, 5 ~{PD1}, 6 ~{PD2}, 10 +VS

## ADA4899
designator U?, comment Package: LFCSP8  NicName: ADA4899  (hidden comment: U)
IC OPAMP VFB 600MHZ 8LFCSP; 04. Manufacturer: Analog Devices Inc.; 07. Manufacturer  Part Number: ADA4899-1YCPZ-R7; 03. Unit Price: 4.56; 13. Created Date/Name: AUG 2018 / Hören; Design: AWGDIG; 3D-Export: No; 01. Distributor: DigiKey; 02. Distributor Part Number: ADA4899-1YCPZ-R7DKR-ND; 09. Operating Temperature: -40°C ~ 125°C; 11. RoHS: YES; ComponentLink1Description: Info; ComponentLink1URL: https://www.digikey.de/products/en/integrated-circuits-ics/linear-amplifiers-instrumentation-op-amps-buffer-amps/687?k=ADA4899&k=&pkeyword=ADA4899&pv7=243&sf=0&FV=1f140000%2Cffe002af%2C142c1449&quantity=&ColumnSort=0&page=1&pageSize=25; ComponentLink2Description: DataSheet; ComponentLink2URL: https://www.analog.com/media/en/technical-documentation/data-sheets/ADA4899-1.pdf
footprint CP-8-13
part A pins: 1 ~{PD}, 2 FB, 3 -, 4 +, 7 OUT
part B pins: 5 -Vs, 8 +Vs, 9 EP
1 alternate drawing of the same symbol

## ADG801BRT
designator K?, comment Type: NC  NickName: ADG801  (hidden comment: K)
IC SWITCH SPST NO SOT23-6; 04. Manufacturer: Analog Devices Inc.; 07. Manufacturer  Part Number: ADG801BRTZ-REEL7; 03. Unit Price: 0.98; 01. Distributor: DigiKey; 02. Distributor Part Number: ADG801BRTZ-REEL7TR-ND; 09. Operating Temperature: -20°C ~ +125°C; ComponentLink1Description: Info; ComponentLink1URL: https://www.digikey.de/product-detail/de/analog-devices-inc/ADG801BRTZ-REEL7/ADG801BRTZ-REEL7TR-ND/995397; ComponentLink2Description: DataSheet; ComponentLink2URL: https://www.analog.com/media/en/technical-documentation/data-sheets/ADG801_802.pdf
footprint SOT23-6 (RJ-6)
part A pins: 1 D, 2 S
part B pins: 3 GND, 4 IN, 6 VDD (power)

## ADG5206
designator U?, comment NicName: ADG5206  (hidden comment: U)
IC MUX 1 X 16:1 32LFCSP; 04. Manufacturer: Analog Devices; 07. Manufacturer  Part Number: ADG5206BCPZ; 03. Unit Price: 10.53; 13. Created Date/Name: AUG 2018 / Hören; 3D-Export: No; ComponentLink1Description: Info; ComponentLink1URL: https://www.digikey.de/products/de?keywords=ADG5206BCPZ-RL7DKR-ND; 01. Distributor: Digi-Key; 02. Distributor Part Number: ADG5206BCPZ-RL7CT-ND; ComponentLink2Description: DataSheet; ComponentLink2URL: http://www.analog.com/media/en/technical-documentation/data-sheets/ADG5206_5207.pdf
footprint LFCSP32
part A pins: 9 GND, 10 A3, 11 A2, 14 A1, 15 A0, 16 EN, 25 VSS (power), 31 VDD (power), 33 EP (power)
part B pins: 1 S16, 2 S15, 3 S14, 4 S13, 5 S12, 6 S11, 7 S10, 8 S9, 17 S1, 18 S2, 19 S3, 20 S4, 21 S5, 22 S6, 23 S7, 24 S8, 29 DA

## ADG5412
designator U?, comment NicName: ADG5412  (hidden comment: U)
IC SWITCH QUAD SPST BID 16LFCSP; 04. Manufacturer: Analog Devices Inc.; 07. Manufacturer  Part Number: ADG5412BFBCPZ-RL7; 03. Unit Price: 8.73; 13. Created Date/Name: AUG 2018 / Hören; 3D-Export: No; 01. Distributor: DigiKey; 02. Distributor Part Number: ADG5412BFBCPZ-RL7DKR-ND; 09. Operating Temperature: -40°C ~ 125°C (TA); 11. RoHS: YES; ComponentLink1Description: Info; ComponentLink1URL: https://www.digikey.de/product-detail/en/analog-devices-inc/ADG5412BFBCPZ-RL7/ADG5412BFBCPZ-RL7DKR-ND/8753330; ComponentLink2Description: DataSheet; ComponentLink2URL: https://www.analog.com/media/en/technical-documentation/data-sheets/ADG5412BF_5413BF.pdf; Package: 16-LFCSP-WQ (CP-16-17)
footprint CP-16-17 (16 lead LFCSP 4x4mm)
part A pins: 2 VSS (power), 3 GND, 11 VDD (power), 17 EP (power)
part B pins: 6 IN4, 7 IN3, 14 IN2, 15 IN1
part C pins: 1 S1, 16 D1
part D pins: 12 S2, 13 D2
part E pins: 8 D3, 9 S3
part F pins: 4 S4, 5 D4

## ADG5419
designator U?, comment NicName: ADG5419  (hidden comment: U)
IC SWITCH SINGLE SPDT 8LFCSP; 04. Manufacturer: Analog Devices Inc.; 07. Manufacturer  Part Number: ADG5419BCPZ-RL7; 03. Unit Price: 4.18; 13. Created Date/Name: AUG 2018 / Hören; 3D-Export: No; 01. Distributor: DigiKey; 02. Distributor Part Number: ADG5419BCPZ-RL7DKR-ND; 09. Operating Temperature: -40°C ~ 125°C; 11. RoHS: YES; ComponentLink1Description: Info; ComponentLink1URL: https://www.digikey.de/product-detail/en/analog-devices-inc/ADG5419BCPZ-RL7/ADG5419BCPZ-RL7DKR-ND/5233051; ComponentLink2Description: DataSheet; ComponentLink2URL: https://www.analog.com/media/en/technical-documentation/data-sheets/ADG5419.pdf
footprint CP-8-4 (8-Lead LFCSP_WD (2x3mm))
part A pins: 1 D, 2 SA, 8 SB
part B pins: 3 GND, 4 VDD (power), 5 EN, 6 IN, 7 VSS (power), 9 EP (power)

## ADP166ACBZ-1.8
designator U?, comment NicName: ADP166-1.8  (hidden comment: U)
IC REG LINEAR 1.8V 150MA 4WLCSP; 04. Manufacturer: Analog Devices Inc.; 07. Manufacturer  Part Number: ADR443BRZ; 03. Unit Price: 8.25; 13. Created Date/Name: AUG 2018 / Hören; 3D-Export: No; 01. Distributor: DigiKey; 02. Distributor Part Number: ADR443BRZ-ND; 09. Operating Temperature: -40°C ~ 125°C; 11. RoHS: YES; ComponentLink1Description: Info; ComponentLink1URL: https://www.digikey.de/products/de?keywords=ADP166ACBZ-1.8-R7; ComponentLink2Description: DataSheet; ComponentLink2URL: https://www.analog.com/media/en/technical-documentation/data-sheets/ADP165_166.pdf
footprint CB-4-1 (4-Ball WLCSP)
pins: A1 Vin, A2 Vout, B1 EN, B2 GND

## ADR130BUJZ
designator U?, comment NicName: ADR130  (hidden comment: U)
IC VREF SERIES 0.35% TSOT-6; 04. Manufacturer: Analog Devices Inc.; 07. Manufacturer  Part Number: ADR130BUJZ-REEL7; 03. Unit Price: 3.5; 13. Created Date/Name: MAR 21 / Hören; 01. Distributor: DigiKey; 02. Distributor Part Number: ADR130BUJZ-REEL7DKR-ND; 09. Operating Temperature: -40°C ~ 125°C; 11. RoHS: YES; ComponentLink1Description: Info; ComponentLink1URL: https://www.digikey.de/products/de?keywords=ADR130BUJZ-REEL7DKR-ND; ComponentLink2Description: DataSheet; ComponentLink2URL: https://www.analog.com/media/en/technical-documentation/data-sheets/ADR130.pdf; Package: UJ-6
footprint UJ-6 (6-Lead Thin Small Outline Transistor Package [TSOT])
pins: 2 GND, 3 Vin, 4 Vout, 5 SET

## ADR440B
designator U?, comment 02. Distributor Part Number: ADR440BRZ-REEL7DKR-ND  (hidden comment: U)
IC VREF SERIES 2.048V 8SOIC; 04. Manufacturer: Analog Devices Inc.; 07. Manufacturer  Part Number: ADR440BRZ-REEL7; 03. Unit Price: 8.25; 13. Created Date/Name: AUG 2018 / Hören; Design: AWGDIG; 3D-Export: No; 01. Distributor: DigiKey; 09. Operating Temperature: -40°C ~ 125°C; 11. RoHS: YES; ComponentLink1Description: Info; ComponentLink1URL: https://www.digikey.de/product-detail/en/analog-devices-inc/ADR440BRZ-REEL7/ADR440BRZ-REEL7DKR-ND/4913659; ComponentLink2Description: DataSheet; ComponentLink2URL: https://www.analog.com/media/en/technical-documentation/data-sheets/ADR440_441_443_444_445.pdf
footprint SOIC8 (R-8) (Generic 8 lead SOIC Narrow Body)
pins: 2 Vin, 4 GND, 5 Trim, 6 Vout

## ADR444B
designator U?, comment 02. Distributor Part Number: ADR444BRZ-REEL7DKR-ND  (hidden comment: U)
IC VREF SERIES 4.096V 8SOIC; 04. Manufacturer: Analog Devices Inc.; 07. Manufacturer  Part Number: ADR444BRZ-REEL7; 03. Unit Price: 8.25; 13. Created Date/Name: AUG 2018 / Hören; Design: AWGDIG; 3D-Export: No; 01. Distributor: DigiKey; 09. Operating Temperature: -40°C ~ 125°C; 11. RoHS: YES; ComponentLink1Description: Info; ComponentLink1URL: https://www.digikey.de/product-detail/en/analog-devices-inc/ADR444BRZ-REEL7/ADR444BRZ-REEL7DKR-ND/3674865; ComponentLink2Description: DataSheet; ComponentLink2URL: https://www.analog.com/media/en/technical-documentation/data-sheets/ADR440_441_443_444_445.pdf
footprint SOIC8 (R-8) (Generic 8 lead SOIC Narrow Body)
pins: 2 Vin, 4 GND, 5 Trim, 6 Vout

## ADR4530BRZ
designator U?, comment NicName: ADR4530  (hidden comment: U)
IC VREF 3V±0.02%  8SOIC; 04. Manufacturer: Analog Devices Inc.; 07. Manufacturer  Part Number: ADR4530BRZ-R7; 03. Unit Price: 6.77; 13. Created Date/Name: AUG 2018 / Hören; 3D-Export: No; 01. Distributor: DigiKey; 02. Distributor Part Number: 505-ADR4530BRZ-R7DKR-ND; 09. Operating Temperature: -40°C ~ 125°C; 11. RoHS: YES; ComponentLink1Description: Info; ComponentLink1URL: https://www.digikey.de/products/en?keywords=505-ADR4530BRZ-R7DKR-ND; ComponentLink2Description: DataSheet; ComponentLink2URL: https://www.analog.com/media/en/technical-documentation/data-sheets/ADR4520_4525_4530_4533_4540_4550.pdf; Package: SOIC8
footprint SOIC8 (R-8) (Generic 8 lead SOIC Narrow Body)
pins: 2 Vin, 4 GND, 6 Vout

## ADR4550ARZ
designator U?, comment NicName: ADR4550  (hidden comment: U)
IC VREF 5V±0.02%  8SOIC; 04. Manufacturer: Analog Devices Inc.; 07. Manufacturer  Part Number: ADR4550BRZ-R7; 03. Unit Price: 7.18; 13. Created Date/Name: AUG 2018 / Hören; 3D-Export: No; 01. Distributor: DigiKey; 02. Distributor Part Number: ADR4550BRZ-R7DKR-ND; 09. Operating Temperature: -40°C ~ 125°C; 11. RoHS: YES; ComponentLink1Description: Info; ComponentLink1URL: https://www.digikey.de/products/en?keywords=ADR4550BRZ-R7DKR-ND; ComponentLink2Description: DataSheet; ComponentLink2URL: https://www.analog.com/media/en/technical-documentation/data-sheets/ADR4520_4525_4530_4533_4540_4550.pdf; Package: SOIC8
footprint SOIC8 (R-8) (Generic 8 lead SOIC Narrow Body)
pins: 2 Vin, 4 GND, 6 Vout

## ADuM1250ARZ
designator U?, comment NicName: ADuM1250  (hidden comment: U)
IC OPAMP JFET 2 CIRCUIT 8MSOP; 04. Manufacturer: Analog Devices Inc.; 07. Manufacturer  Part Number: ADUM1250ARZ-RL7; 03. Unit Price: 4.75; 13. Created Date/Name: AUG 2018 / Hören; 01. Distributor: DigiKey; 02. Distributor Part Number: ADUM1250ARZ-RL7DKR-ND; 11. RoHS: YES; ComponentLink1Description: Info; ComponentLink1URL: https://www.digikey.de/products/de?keywords=ADUM1250ARZ-RL7DKR-ND; ComponentLink2Description: DataSheet; ComponentLink2URL: https://www.analog.com/media/en/technical-documentation/data-sheets/ADUM1250_1251.pdf; Package: SOIC8 (R8)
footprint SOIC8 (R-8) (Generic 8 lead SOIC Narrow Body)
pins: 1 VDD1, 2 VIA, 3 VIB, 4 GND1, 5 GND2, 6 VIE, 7 VOF, 8 VDD2
text: SDA; SCL

## Alignment Pin
designator GP?, comment GP  (value not drawn)
Board to Backplane Alignment Pin; 04. Manufacturer: Samtec; 07. Manufacturer  Part Number: [see model description]; 13. Created Date/Name: AUG 2018 / Hören; 3D-Export: No; 01. Distributor: Samtec; ComponentLink1Description: Info; ComponentLink2Description: DataSheet
footprint EGBF-RA-20 (Alignment with Backplane (Card Side))
footprint EGBM-VT-2-25.3-20 (Alignment with Card (Bacplane Side))
pins: 1

## BATTERY
designator B?, comment B
BATTERY HOLDER COIN 12MM TH; MFR-PN: 103; MFR-TYPE: Coin Cell Battery Holder 20mm; MFR: KEYSTONE; POPULATED: yes; 03. Unit Price: 1.42; 3D-Export: No; 01. Distributor: Mouser; 02. Distributor Part Number: 534-103; 04. Manufacturer: Keystone; 07. Manufacturer  Part Number: 103; 11. RoHS: YES; ComponentLink4Description: Info; ComponentLink4URL: https://www.mouser.de/ProductDetail/Renata/HU357-LF?qs=%2Fha2pyFadujb%252BjPSOXiRz7fkC43b9Pf0VN0uI1M5lhU%3D; ComponentLink5Description: DataSheet; ComponentLink5URL: https://www.mouser.de/datasheet/2/346/HU357-LF-30189.pdf
footprint KEYSTONE-BATTHLDR-103
pins: 1, 2
2 alternate drawings of the same symbol

## BUF634
designator U?, comment NicName: BUF634  (hidden comment: U)
IC OPAMP BUFFER 180MHZ TO220-5; 04. Manufacturer: Texas Instruments; 07. Manufacturer  Part Number: BUF634T; 03. Unit Price: 10.34; 13. Created Date/Name: AUG 2018 / Hören; Design: AWGDIG; 3D-Export: No; 01. Distributor: DigiKey; 02. Distributor Part Number: BUF634T-ND; 09. Operating Temperature: -40°C ~ 85°C; 11. RoHS: YES; ComponentLink1Description: Info; ComponentLink1URL: https://www.digikey.de/product-detail/en/texas-instruments/BUF634T/BUF634T-ND/251039; ComponentLink2Description: DataSheet; ComponentLink2URL: http://www.ti.com/lit/ds/symlink/buf634.pdf
footprint TO-220-5-Standing
part A pins: 2 IN, 4 OUT
part B pins: 1 BW, 3 V-, 5 V+
part A text: G=1

## C
designator C?  value 100nF  (hidden comment: C)
CAP CER 0.1UF 16V X7R 0402; 04. Manufacturer: Samsung Electro-Mechanics; 07. Manufacturer  Part Number: CL05B104KO5NNNC; Tolerance: ±10%; 03. Unit Price: 0.09; 13. Created Date/Name: AUG2018/Hören; Design: AWGDIG; 3D-Export: No; Voltage Rating: 16V; Type: X7R; ComponentLink1Description: Info; ComponentLink1URL: https://www.digikey.de/product-detail/en/samsung-electro-mechanics/CL05B104KO5NNNC/1276-1001-6-ND/3891515; 02. Distributor Part Number: 1276-1001-6-ND; 09. Operating Temperature: -55°C ~ 125°C; 11. RoHS: YES; 01. Distributor: DigiKey; ComponentLink2Description: DataSheet; ComponentLink2URL: http://www.samsungsem.com/kr/support/product-search/mlcc/__icsFiles/afieldfile/2018/07/18/CL05B104KO5NNNC.pdf; Package: 0402.
simulation model CAP (Capacitor)
signal-integrity model Cap
footprint CAPC0201 (Chip Capacitor; Body 0.6x0.3mm (LxW typ) [0201], IPC High Density)
footprint CAPC0402 (Chip Capacitor; Body 1.0x0.5mm (LxW typ) [0402], IPC High Density)
footprint CAPC0603 (Chip Capacitor; Body 1.6x0.8mm (LxW typ) [0603], IPC High Density)
footprint CAPC0805 (Chip Capacitor; Body 2.0x1.3mm (LxW typ) [0805], IPC High Density)
footprint CAPC1206 (Chip Capacitor; Body 3.2x1.6mm (LxW typ) [1206], IPC High Density)
footprint CAPC1210 (Chip Capacitor; Body 3.2x2.5mm (LxW typ) [1210], IPC High Density)
pins: 1, 2
text: .

## C+
designator C?  value 10uF  (hidden comment: C+)
Capacitor Polarized; 04. Manufacturer: AVX Corporation; 07. Manufacturer  Part Number: TPST106K016H0800; Tolerance: ±10%; ESR: 800mOhm @ 100kHz; Voltage Rating: 16V; Type: Tantalum; 03. Unit Price: 0.5; 13. Created Date/Name: AUG2018/Hören; 3D-Export: No; ComponentLink1Description: Info; ComponentLink1URL: *; 02. Distributor Part Number: TPST106K016H0800-ND; 09. Operating Temperature: -55°C ~ 125°C; 11. RoHS: YES; 01. Distributor: DigiKey; ComponentLink2Description: DataSheet; Package: 1210
simulation model CAP (Capacitor)
signal-integrity model Cap
footprint CAPMP0805 (Molded Capacitor; Tantalum; Body 2.0x1.3mm (LxW typ) [0805], IPC High Density)
footprint CAPMP1210 (Molded Capacitor; Tantalum; Body 3.2x2.5mm (LxW typ) [1210], IPC High Density)
footprint CAPMP2312 (Molded Capacitor; Tantalum; Body 6.0x3.2mm (LxW typ) [2312], IPC High Density)
footprint CAPMP2917 (Molded Capacitor; Tantalum; Body 7.3x4.3mm (LxW typ) [2917])
pins: 1, 2
text: +

## C_1
designator C?, comment value 4.3pF  (hidden comment: C)
CAP CER 4.3PF 200V C0G/NP0 0402; 04. Manufacturer: Johanson Technology Inc.; 07. Manufacturer  Part Number: 201R07S4R3AV4T; ESR: mΩ @ Hz; 03. Unit Price: 0.58; Tolerance: ±0.05pF; ComponentLink1Description: Info; ComponentLink1URL: https://www.digikey.de/product-detail/en/johanson-technology-inc/201R07S4R3AV4T/712-1681-6-ND/9658942; 02. Distributor Part Number: 712-1681-6-ND; 09. Operating Temperature: -55°C ~ 125°C; 11. RoHS: YES; 01. Distributor: DigiKey; ComponentLink2Description: DataSheet; Package: 0402
simulation model CAP (Capacitor)
signal-integrity model Cap
footprint CAPC0201 (Chip Capacitor; Body 0.6x0.3mm (LxW typ) [0201], IPC High Density)
pins: 1, 2

## C_2
designator C?, comment 100n
POPULATED: yes; Parameters: X7R, 25V, 10%
footprint CAPC1206 (Chip Capacitor; Body 3.2x1.6mm (LxW typ) [1206], IPC High Density)
pins: 1, 2
2 alternate drawings of the same symbol

## CAP
designator C?, comment value 10uF  (hidden comment: C)
CAP CER 10UF 10V X7R 0805; 04. Manufacturer: Samsung Electro-Mechanics; 07. Manufacturer  Part Number: CL21B106KPQNNNE; POPULATED: yes; Parameters: X7R, 10V, 10%; 03. Unit Price: 0.26; Tolerance: 10%; 3D-Export: No; Temperature Range: -40°C/+85°C; 01. Distributor: DigiKey; 02. Distributor Part Number: 1276-1764-6-ND; 09. Operating Temperature: -55°C ~ 125°C; 11. RoHS: YES; Type: X7R; Voltage Rating: 10V
signal-integrity model Cap
simulation model CAP
footprint CAPC0805 (Chip Capacitor; Body 2.0x1.3mm (LxW typ) [0805], IPC High Density)
pins: 1, 2
2 alternate drawings of the same symbol

## Cap Pol2
designator C?, comment value 680uF  (hidden comment: C+)
CAP TANT 680UF 10% 4V 2917; MFR-PN: TPME687K004R0023; MFR: AVX; 04. Manufacturer: AVX Corporation; POPULATED: yes; Parameters: Tantalum, 4V, ±10%; 03. Unit Price: 5.63; Type: Tantalum; 3D-Export: No; Temperature Range: -55°C ~ 125°C; 01. Distributor: DigiKey; 02. Distributor Part Number: 478-1815-6-ND; 07. Manufacturer  Part Number: TPME687K004R0023; 09. Operating Temperature: -55°C ~ 125°C; Tolerance: ±10%; Voltage Rating: 4V; ComponentLink4Description: Info; ComponentLink4URL: https://www.digikey.de/products/en/capacitors/tantalum-capacitors/59?k=TPME687K004R0023&k=&pkeyword=TPME687K004R0023&sv=0&pv7=243&sf=0&quantity=&ColumnSort=0&page=1&pageSize=25; ComponentLink5Description: DataSheet; ComponentLink5URL: http://datasheets.avx.com/TPM.pdf
signal-integrity model Cap
simulation model CAP
footprint CAPMP2917 (Molded Capacitor; Tantalum; Body 7.3x4.3mm (LxW typ) [2917])
pins: 1, 2
2 alternate drawings of the same symbol

## Cap Pol2_1
designator C?, comment 330u
MFR-PN: T530X337M006ATE018; MFR: KEMET; POPULATED: yes; Parameters: 2V5; 04. Manufacturer: KEMET; 07. Manufacturer  Part Number: T530X337M006ATE018
footprint KEMET-CAP-POL-7.3mmx4.3mm
pins: 1, 2
2 alternate drawings of the same symbol

## CAP_1
designator C?, comment 100n
POPULATED: yes; Parameters: X7R, 16V, 10%; TempRange: -40*C - +85°C
footprint CAPC0402 (Chip Capacitor; Body 1.0x0.5mm (LxW typ) [0402], IPC High Density)
pins: 1, 2
2 alternate drawings of the same symbol

## CAP_2
designator C?, comment 4u7
POPULATED: yes; Parameters: X7R, 16V, 10%
footprint CAPC0805 (Chip Capacitor; Body 2.0x1.3mm (LxW typ) [0805], IPC High Density)
pins: 1, 2
2 alternate drawings of the same symbol

## CAP_3
designator C?, comment 47u
POPULATED: yes; Parameters: X5R, 6V3, 10%
footprint CAPC0805 (Chip Capacitor; Body 2.0x1.3mm (LxW typ) [0805], IPC High Density)
pins: 1, 2
2 alternate drawings of the same symbol

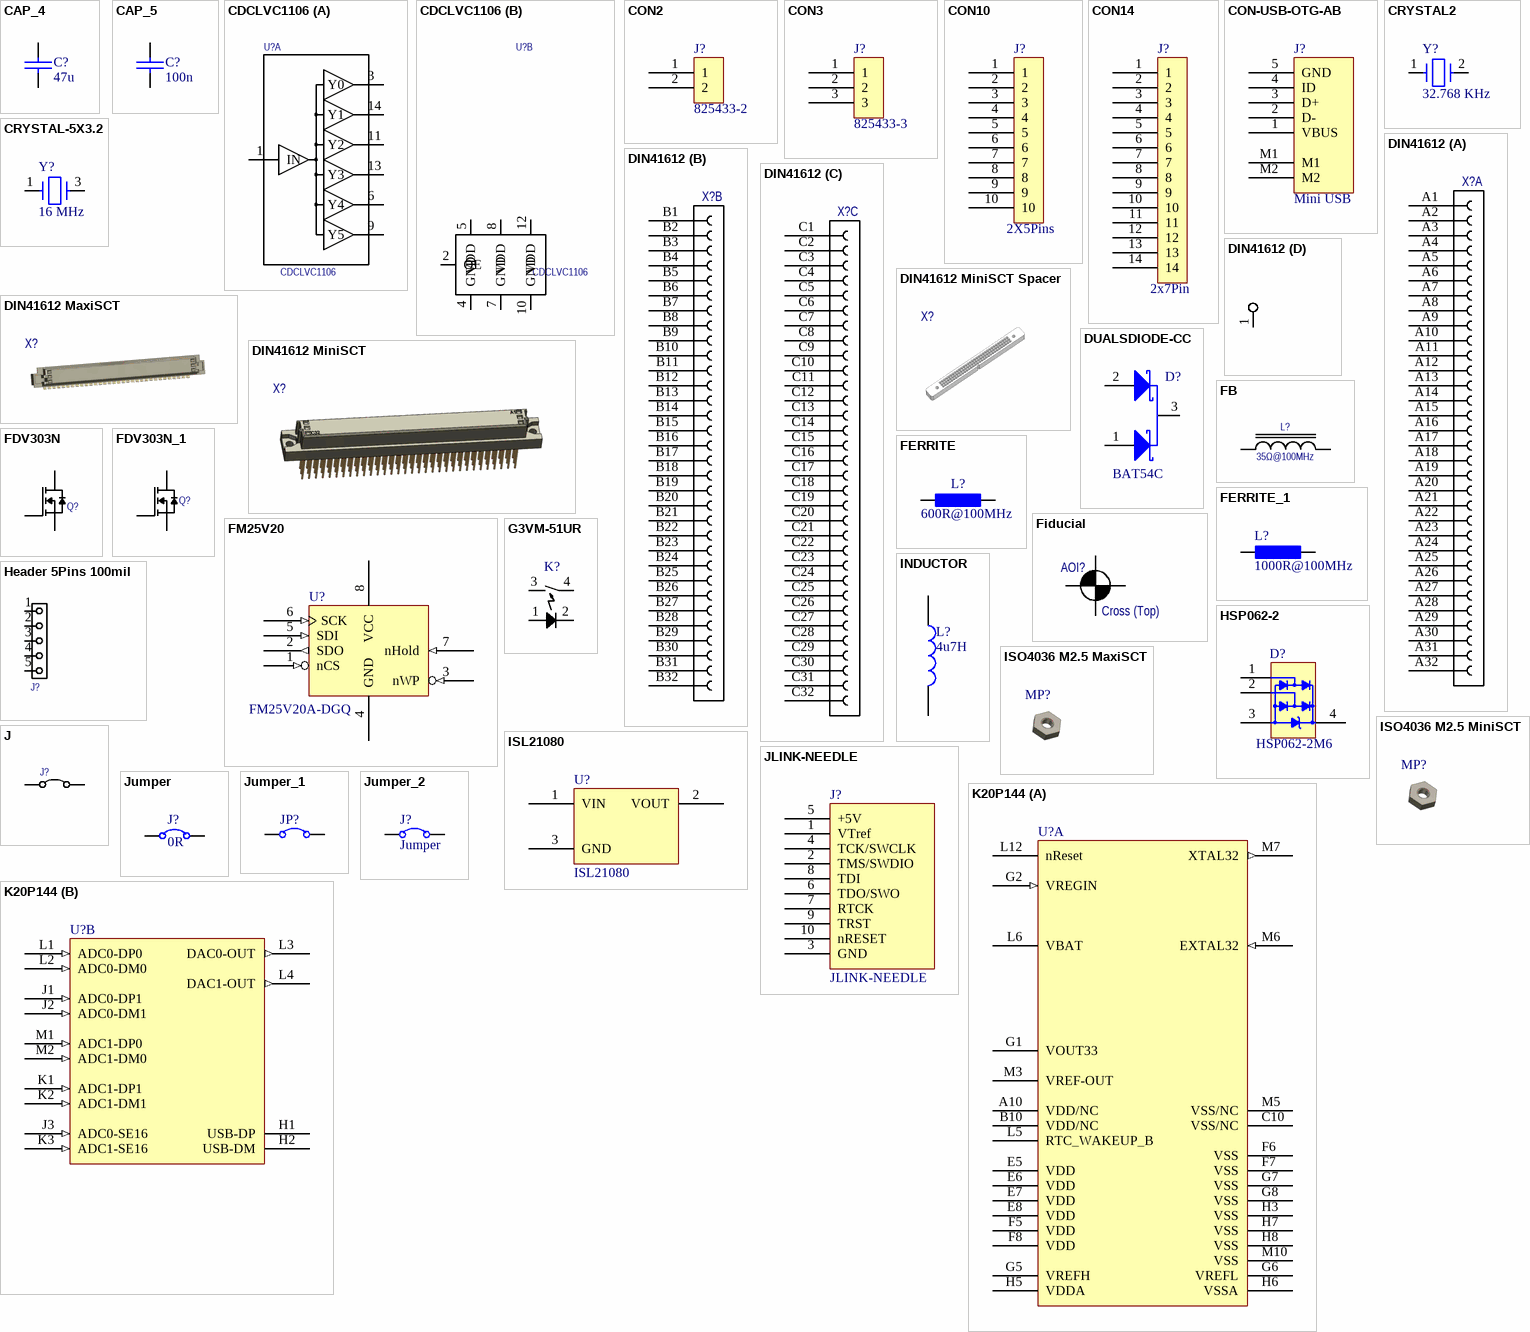
[diagram p4: symbols CAP_4 to K20P144]

## CAP_4
designator C?, comment 47u
POPULATED: yes; Parameters: X5R, 25V, 20%
footprint CAPC1210 (Chip Capacitor; Body 3.2x2.5mm (LxW typ) [1210], IPC High Density)
pins: 1, 2
2 alternate drawings of the same symbol

## CAP_5
designator C?, comment 100n
POPULATED: yes; Parameters: X7R, 16V, 10%
footprint CAPC0402 (Chip Capacitor; Body 1.0x0.5mm (LxW typ) [0402], IPC High Density)
pins: 1, 2
2 alternate drawings of the same symbol

## CDCLVC1106
designator U?, comment NicName: CDCLVC1106  (hidden comment: U)
IC CLK BUFFER 1:6 250MHZ 14TSSOP; 04. Manufacturer: Texas Instruments; 07. Manufacturer  Part Number: CDCLVC1106PWR; 03. Unit Price: 3.15; 13. Created Date/Name: AUG 2018 / Hören; 3D-Export: No; 01. Distributor: DigiKey; 02. Distributor Part Number: 296-27588-6-ND; 09. Operating Temperature: -40°C ~ 85°C; 11. RoHS: YES; ComponentLink1Description: Info; ComponentLink1URL: https://www.digikey.de/product-detail/en/texas-instruments/CDCLVC1106PWR/296-27588-6-ND/2336543; ComponentLink2Description: DataSheet; ComponentLink2URL: http://www.ti.com/lit/ds/symlink/cdclvc1104.pdf; Package: TSSOP14
footprint TSSOP14(R-PDSO-G14)
part A pins: 1 IN, 3 Y0, 6 Y4, 9 Y5, 11 Y2, 13 Y3, 14 Y1
part B pins: 2 OE, 4 GND, 5 VDD, 7 GND, 8 VDD, 10 GND, 12 VDD

## CON2
designator J?, comment 07. Manufacturer  Part Number: 825433-2  (hidden comment: J)
CONN HEADER VERT 2POS 2.54MM; MFR: TYCO; 04. Manufacturer: TE Connectivity AMP Connectors; POPULATED: no; 03. Unit Price: 0.39; 3D-Export: No; MFR-PN: 825433-2; 01. Distributor: DigiKey; 02. Distributor Part Number: A106464-ND; 09. Operating Temperature: -65°C ~ 105°C; 11. RoHS: YES; ComponentLink4Description: Info; ComponentLink4URL: https://www.digikey.de/products/en/connectors-interconnects/rectangular-connectors-headers-male-pins/314?k=825433-2&k=&pkeyword=825433-2&sv=0&pv88=2&sf=0&quantity=&ColumnSort=0&page=1&pageSize=25; ComponentLink5Description: DataSheet; ComponentLink5URL: https://www.te.com/commerce/DocumentDelivery/DDEController?Action=srchrtrv&DocNm=825433&DocType=Customer+Drawing&DocLang=English
footprint HDR1X2
footprint TSW-1X2
pins: 1, 2

## CON3
designator J?, comment 07. Manufacturer  Part Number: 825433-3  (hidden comment: J)
CONN HEADER VERT 3POS 2.54MM; MFR: TYCO; 04. Manufacturer: TE Connectivity AMP Connectors; POPULATED: no; 03. Unit Price: 0.54; 3D-Export: No; MFR-PN: 825433-3; 01. Distributor: DigiKey; 02. Distributor Part Number: A106465-ND; 09. Operating Temperature: -65°C ~ 105°C; 11. RoHS: YES; ComponentLink4Description: Info; ComponentLink4URL: https://www.digikey.de/products/en/connectors-interconnects/rectangular-connectors-headers-male-pins/314?k=825433-2&k=&pkeyword=825433-2&sv=0&pv88=2&sf=0&quantity=&ColumnSort=0&page=1&pageSize=25; ComponentLink5Description: DataSheet; ComponentLink5URL: https://www.te.com/commerce/DocumentDelivery/DDEController?Action=srchrtrv&DocNm=825433&DocType=Customer+Drawing&DocLang=English
footprint TSW-1X3 (Footprint not found)
pins: 1, 2, 3

## CON10
designator J?, comment NicName: 2X5Pins  (hidden comment: J)
CONN HEADER VERT 10POS 2.54MM; MFR-PN: 09 18 510 6324; MFR: HARTING; 07. Manufacturer  Part Number: 09185106324; POPULATED: yes; 03. Unit Price: 1.34; 3D-Export: No; 01. Distributor: DigiKey; 02. Distributor Part Number: 1195-1672-ND; 04. Manufacturer: HARTING; 09. Operating Temperature: -55°C ~ 125°C; 11. RoHS: YES; ComponentLink4Description: Info; ComponentLink4URL: https://www.digikey.de/products/en/connectors-interconnects/rectangular-connectors-headers-male-pins/314?k=09%2018%20510%206324; ComponentLink5Description: DataSheet; ComponentLink5URL: https://b2b.harting.com/files/download/PRD/PDF_TS/09185XXX324_100154466DRW008A.pdf
footprint SEK10GW
pins: 1, 2, 3, 4, 5, 6, 7, 8, 9, 10

## CON14
designator J?, comment NicName: 2x7Pin  (hidden comment: J)
CONN HEADER VERT 14POS 2MM; MFR: SAMTEC; MFR-PN: LTMM-107-02-F-D; MFR-TYPE: LTMM; 04. Manufacturer: Samtec Inc.; POPULATED: yes; 03. Unit Price: 2.07; 3D-Export: No; 01. Distributor: Samtec Inc.; 02. Distributor Part Number: LTMM-107-02-F-D; 07. Manufacturer  Part Number: LTMM-107-02-F-D; 11. RoHS: YES; ComponentLink4Description: Info; ComponentLink4URL: https://www.samtec.com/products/ltmm-107-02-f-d
footprint LTM-V-14
pins: 1, 2, 3, 4, 5, 6, 7, 8, 9, 10, 11, 12, 13, 14

## CON-USB-OTG-AB
designator J?, comment NicName: Mini USB  (hidden comment: J)
CONN RCPT USB2.0 MINI B VERT; MFR-PN: 0565790519; MFR: MOLEX; 07. Manufacturer  Part Number: 5000751517; POPULATED: yes; 03. Unit Price: 4.04; 3D-Export: No; Temperature Range: -20°C/+85°C; 01. Distributor: DigiKey; 02. Distributor Part Number: WM2072-ND; 04. Manufacturer: Molex; 09. Operating Temperature: -40°C ~ 85°C; 11. RoHS: YES; ComponentLink4Description: Info; ComponentLink4URL: https://www.digikey.de/products/en?keywords=WM2072-ND; ComponentLink5Description: DataSheet; ComponentLink5URL: https://www.molex.com/pdm_docs/sd/5000751517_sd.pdf
footprint MOLEX-5000751517
pins: 1 VBUS, 2 D-, 3 D+, 4 ID, 5 GND, M1, M2

## CRYSTAL2
designator Y?, comment value 32.768 KHz  (hidden comment: Y)
32.768 KHz XTAL; MFR: EUROQUARTZ; MFR-PN: PH32768S; POPULATED: yes; 03. Unit Price: 0.502; 3D-Export: No; Temperature Range: -40°C/+85°C; 01. Distributor: Farnell; 02. Distributor Part Number: 1641088; 04. Manufacturer: EUROQUARTZ; 07. Manufacturer  Part Number: PH32768S; 09. Operating Temperature: -40°C~+85°C; 11. RoHS: YES; ComponentLink4Description: Info; ComponentLink4URL: https://de.farnell.com/euroquartz/ph32768x/quarz-3x8mm-plt-32-768khz-12-5/dp/1641088?ost=1641088&ddkey=https%3Ade-DE%2FElement14_Germany%2Fsearch; ComponentLink5Description: DataSheet; ComponentLink5URL: http://www.farnell.com/datasheets/1322436.pdf?_ga=2.76528336.455496259.1554557825-1796319186.1516204025&_gac=1.191945176.1554557825.Cj0KCQjwnKHlBRDLARIsAMtMHDEqbRXRqjZhpdX2XgffLKCo5B_j81vh-gSBYYE2_w1VQzz4pZXVC3caAvMVEALw_wcB
footprint FC
pins: 1, 2

## CRYSTAL-5X3.2
designator Y?, comment value 16 MHz  (hidden comment: Y)
CRYSTAL 16.0000MHZ 18PF SMD; MFR: ABRACON; MFR-PN: ABM3B-16.000MHZ-B2-T; 04. Manufacturer: Abracon LLC; Parameters: CL=18pF, 50ppm; POPULATED: yes; 03. Unit Price: 0.56; 3D-Export: No; Temperature Range: -40°C/+85°C; 01. Distributor: DigiKey; 02. Distributor Part Number: 535-9122-6-ND; 07. Manufacturer  Part Number: ABM3B-16.000MHZ-B2-T; 09. Operating Temperature: -20°C ~ 70°C; 11. RoHS: YES; ComponentLink4Description: Info; ComponentLink4URL: https://www.digikey.de/products/en?keywords=535-9122-6-ND; ComponentLink5Description: DataSheet; ComponentLink5URL: https://abracon.com/Resonators/abm3b.pdf
footprint XTAL(Q)5x3.2
pins: 1, 3

## DIN41612
designator X?, comment X  (value not drawn)  (no BOM)
DIN-SIGNAL; 04. Manufacturer: Harting; 13. Created Date/Name: NOV2018 / Hören; System: Connector; 3D-Export: Yes; 01. Distributor: DigiKey
footprint DIN 41612
part A pins: A1, A2, A3, A4, A5, A6, A7, A8, A9, A10, A11, A12, A13, A14, A15, A16, A17, A18, A19, A20, A21, A22, A23, A24, A25, A26, A27, A28, A29, A30, A31, A32
part B pins: B1, B2, B3, B4, B5, B6, B7, B8, B9, B10, B11, B12, B13, B14, B15, B16, B17, B18, B19, B20, B21, B22, B23, B24, B25, B26, B27, B28, B29, B30, B31, B32
part C pins: C1, C2, C3, C4, C5, C6, C7, C8, C9, C10, C11, C12, C13, C14, C15, C16, C17, C18, C19, C20, C21, C22, C23, C24, C25, C26, C27, C28, C29, C30, C31, C32
part D pins: 1